# Altium schematic symbol library NS5B1G384DFT2G.Schlib: 1 symbol
Pins are listed as number, name and electrical type; pins without a type are passive.

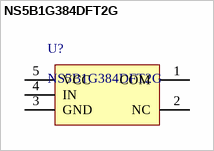
[diagram p0: symbol NS5B1G384DFT2G]

## NS5B1G384DFT2G
designator U?
1 Circuit IC Switch 1:1 15Ohm SC-88A (SC-70-5/SOT-353)
pins: 1 COM, 2 NC, 3 GND, 4 IN, 5 VCC